# Altium footprint library DFN-8_EP_3x3_0.5.PcbLib: 1 footprints
Each footprint in its own frame and in the unit in brackets; x right, y up, seen from the top. Pads: shape width x height; smd on the part's side, far side on the other; paste and mask are expansions set on the pad; w line width, h text height; cw(c..) or ccw(c..) is an arc to the next point about the centre after c.
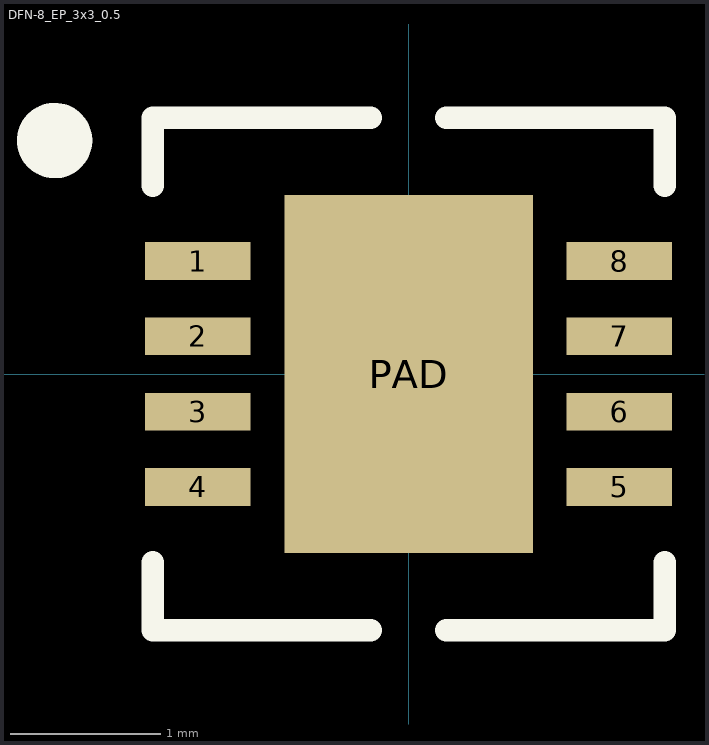
[diagram p0: the footprint, top view; thin cyan lines are the x and y axes]

## DFN-8_EP_3x3_0.5 [mm] "8-pin DFN, 3.0mm x 3.0mm, 0.5mm pitch"
height 0.8
pads (9):
  rect 0.7x0.25 smd: 1(-1.4,0.75) 2(-1.4,0.25) 3(-1.4,-0.25) 4(-1.4,-0.75) 5(1.4,-0.75) 6(1.4,-0.25) 7(1.4,0.25) 8(1.4,0.75)
  rect 1.65x2.38 smd: PAD(0,0)
Top Overlay:
  circle w0.25: c-2.35,1.55 r0.125
  lines w0.15: -1.7,-1.25 -1.7,-1.7 -0.25,-1.7 ; -1.7,1.25 -1.7,1.7 -0.25,1.7 ; 0.25,-1.7 1.7,-1.7 1.7,-1.25 ; 0.25,1.7 1.7,1.7 1.7,1.25
3D body "DFN-8_EP_3x3_0.5.step": height 0.8, standoff 0, extent -1.551,-1.55 1.551,1.55